# EAGLE library part 418117170909 (library Wurth_Elektronik_Electromechanic_Switch_rev15d)
WS-BS 2.54 mm compact THT Dip Switch with flat actuator, 9 Pole
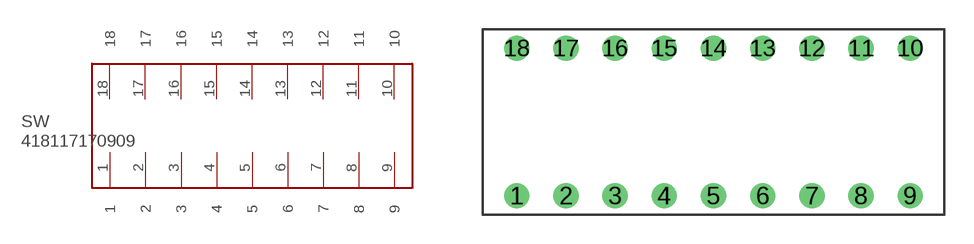
[diagram p72: symbol with the pads of 418117170909; footprint 418117170909]

Designator prefix SW

## 418117170909  [418117170909]
1  1
2  2
3  3
4  4
5  5
6  6
7  7
8  8
9  9
10  10
11  11
12  12
13  13
14  14
15  15
16  16
17  17
18  18

## Footprint 418117170909 (pad centres in mm)
WS-BS 2.54 mm compact THT Dip Switch with flat actuator, 9 Pole
drill 0.8: 1 -10.16,-3.81; 2 -7.62,-3.81; 3 -5.08,-3.81; 4 -2.54,-3.81; 5 0,-3.81; 6 2.54,-3.81; 7 5.08,-3.81; 8 7.62,-3.81; 9 10.16,-3.81; 10 10.16,3.81; 11 7.62,3.81; 12 5.08,3.81; 13 2.54,3.81; 14 0,3.81; 15 -2.54,3.81; 16 -5.08,3.81; 17 -7.62,3.81; 18 -10.16,3.81